# EAGLE library part ATTENUATOR (library QuantumOptics)
Attenuator, electrical or optical.
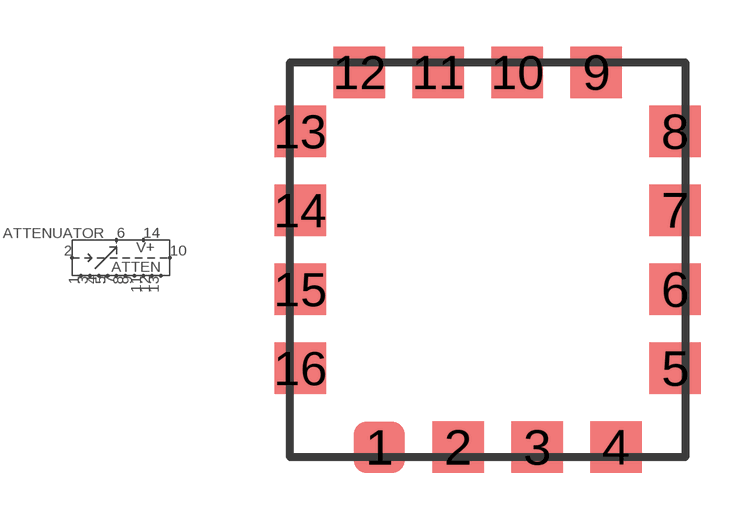
[diagram p46: symbol with the pads of RVA2500_MINICIRCUITS; footprint RVA2500_MINICIRCUITS]

Designator prefix ATTEN

## ATTENUATOR-RVA2500  [RVA2500_MINICIRCUITS]
1  COM1
2  IN  in
3  COM2
4  COM3
5  COM4
6  CTRL  in
7  COM5
8  COM6
9  COM7
10  OUT  out
11  COM8
12  COM9
13  COM10
14  V+

## Footprint RVA2500_MINICIRCUITS (pad centres in mm)
RVA-2500, Minicircuits attenuator. 10MHz-2.5GHz, -40dB @ 1.5GHz. SMT, on 0.025" grid. Index mark on device is pin 1, pad with rounded edges. http://www.minicircuits.com/rva-2500.pdf
smd 1.651 x 1.651: 1 -3.175,-6.35; 2 -0.635,-6.35; 3 1.905,-6.35; 4 4.445,-6.35; 5 6.35,-3.81; 6 6.35,-1.27; 7 6.35,1.27; 8 6.35,3.81; 9 3.81,5.715; 10 1.27,5.715; 11 -1.27,5.715; 12 -3.81,5.715; 13 -5.715,3.81; 14 -5.715,1.27; 15 -5.715,-1.27; 16 -5.715,-3.81